# Altium footprint library SOP-8.PcbLib: 1 footprints
Each footprint in its own frame and in the unit in brackets; x right, y up, seen from the top. Pads: shape width x height; smd on the part's side, far side on the other; paste and mask are expansions set on the pad; w line width, h text height; cw(c..) or ccw(c..) is an arc to the next point about the centre after c.
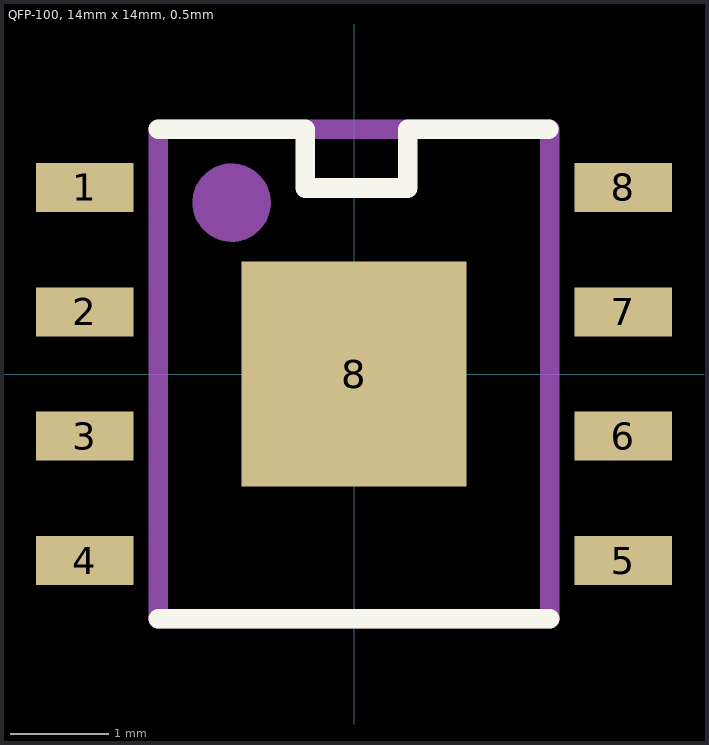
[diagram p0: the footprint, top view; thin cyan lines are the x and y axes]

## QFP-100, 14mm x 14mm, 0.5mm [mm] "QFP-100, 14mm x 14mm, 0.5mm"
height 0.75
pads (9):
  rect 1x0.5 smd mask+0.05: 1(-2.75,1.905) 2(-2.75,0.635) 3(-2.75,-0.635) 4(-2.75,-1.905) 5(2.75,-1.905) 6(2.75,-0.635) 7(2.75,0.635) 8(2.75,1.905)
  rect 2.3x2.3 smd paste-0.35 mask+0.05: 8(0,0)
Top Overlay:
  lines w0.2: -2,-2.5 2,-2.5 ; -2,2.5 -0.5,2.5 -0.5,1.9 0.55,1.9 0.55,2.2 0.55,2.5 1.989,2.5
Top Assembly:
  circle w0.4: c-1.25,1.75 r0.2
  lines w0.2: -2,-2.5 2,-2.5 2,2.5 -2,2.5 -2,-2.5
Top Designator:
  text ".Designator" at -3,-4.124 h2
Top Component Center:
  lines w0.2: -0.5,0 0.5,0 ; 0,-0.6 0,0.5
3D body "SOP-8.step": height 1.6, standoff 0, extent -3.021,-2.51 3.021,2.51